# EAGLE library part PIN-ROW-SEILT-X5 (library seb)
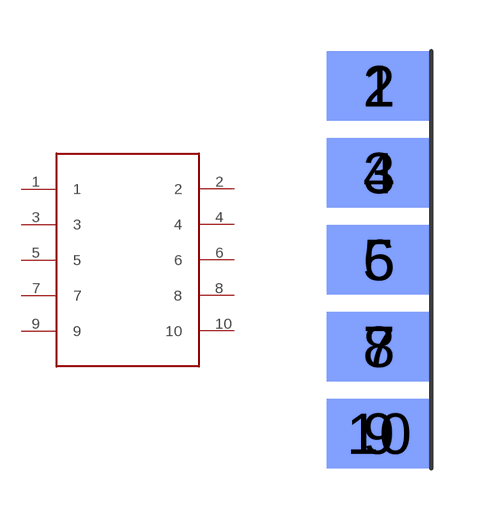
[diagram p0: symbol with the pads of PIN-ROW-SEITL-X5; footprint PIN-ROW-SEITL-X5]

Designator prefix -

## PIN-ROW-SEILT-X5  [PIN-ROW-SEITL-X5]
1  1
2  2
3  3
4  4
5  5
6  6
7  7
8  8
9  9
10  10

## Footprint PIN-ROW-SEITL-X5 (pad centres in mm)
smd 3.048 x 2.032: 1 1.524,11.176; 3 1.524,8.636; 5 1.524,6.096; 7 1.524,3.556; 9 1.524,1.016
smd 3.048 x 2.032 bottom: 2 1.524,11.176; 4 1.524,8.636; 6 1.524,6.096; 8 1.524,3.556; 10 1.524,1.016